# EAGLE library part PIC18F45K50 (library usb-eeprom)
40/44-Pin, Low-Power, High-Performance Microcontrollers with XLP Technology
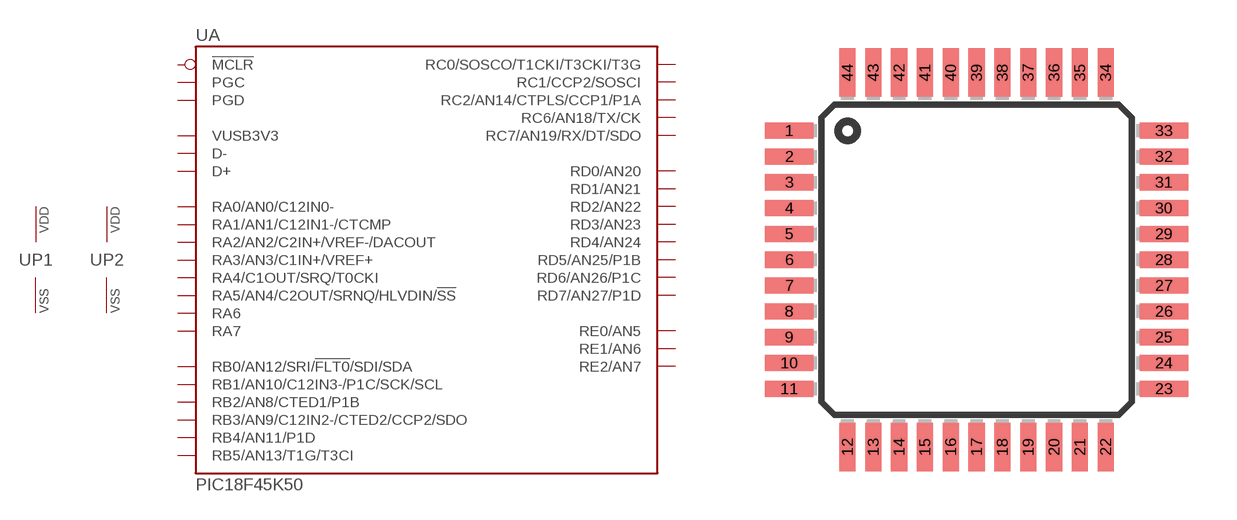
[diagram p0: symbol with the pads of TQFP44; footprint TQFP44]

Designator prefix U; gates A=PIC18(L)F45K50 P1=VDD-VSS P2=VDD-VSS

## PIC18F45K50-I/PT  [TQFP44]
1  A:RC7/AN19/RX/DT/SDO
2  A:RD4/AN24
3  A:RD5/AN25/P1B
4  A:RD6/AN26/P1C
5  A:RD7/AN27/P1D
6  P1:VSS  pwr
7  P1:VDD  pwr
8  A:RB0/AN12/SRI/!FLT0!/SDI/SDA
9  A:RB1/AN10/C12IN3-/P1C/SCK/SCL
10  A:RB2/AN8/CTED1/P1B
11  A:RB3/AN9/C12IN2-/CTED2/CCP2/SDO
14  A:RB4/AN11/P1D
15  A:RB5/AN13/T1G/T3CI
16  A:PGC
17  A:PGD
18  A:!MCLR  in
19  A:RA0/AN0/C12IN0-
20  A:RA1/AN1/C12IN1-/CTCMP
21  A:RA2/AN2/C2IN+/VREF-/DACOUT
22  A:RA3/AN3/C1IN+/VREF+
23  A:RA4/C1OUT/SRQ/T0CKI
24  A:RA5/AN4/C2OUT/SRNQ/HLVDIN/!SS!
25  A:RE0/AN5
26  A:RE1/AN6
27  A:RE2/AN7
28  P2:VDD  pwr
29  P2:VSS  pwr
30  A:RA7
31  A:RA6
32  A:RC0/SOSCO/T1CKI/T3CKI/T3G
35  A:RC1/CCP2/SOSCI
36  A:RC2/AN14/CTPLS/CCP1/P1A
37  A:VUSB3V3  pwr
38  A:RD0/AN20
39  A:RD1/AN21
40  A:RD2/AN22
41  A:RD3/AN23
42  A:D-
43  A:D+
44  A:RC6/AN18/TX/CK

## Footprint TQFP44 (pad centres in mm)
Thin Quad Flat Package
smd 1.5 x 0.5: 1 -5.8,4; 2 -5.8,3.2; 3 -5.8,2.4; 4 -5.8,1.6; 5 -5.8,0.8; 6 -5.8,0; 7 -5.8,-0.8; 8 -5.8,-1.6; 9 -5.8,-2.4; 10 -5.8,-3.2; 11 -5.8,-4; 23 5.8,-4; 24 5.8,-3.2; 25 5.8,-2.4; 26 5.8,-1.6; 27 5.8,-0.8; 28 5.8,0; 29 5.8,0.8; 30 5.8,1.6; 31 5.8,2.4; 32 5.8,3.2; 33 5.8,4
smd 0.5 x 1.5: 12 -4,-5.8; 13 -3.2,-5.8; 14 -2.4,-5.8; 15 -1.6,-5.8; 16 -0.8,-5.8; 17 0,-5.8; 18 0.8,-5.8; 19 1.6,-5.8; 20 2.4,-5.8; 21 3.2,-5.8; 22 4,-5.8; 34 4,5.8; 35 3.2,5.8; 36 2.4,5.8; 37 1.6,5.8; 38 0.8,5.8; 39 0,5.8; 40 -0.8,5.8; 41 -1.6,5.8; 42 -2.4,5.8; 43 -3.2,5.8; 44 -4,5.8